# EAGLE library part DIP-GAS-MQ-9(6P-D19MM) (library DIP-GAS-MQ-9_6P-D19MM_)
314100008 Check availability <https://pricing.snapeda.com/parts/MQ-9/Samsung%20Electro-Mechanics/view-part?ref=eda>
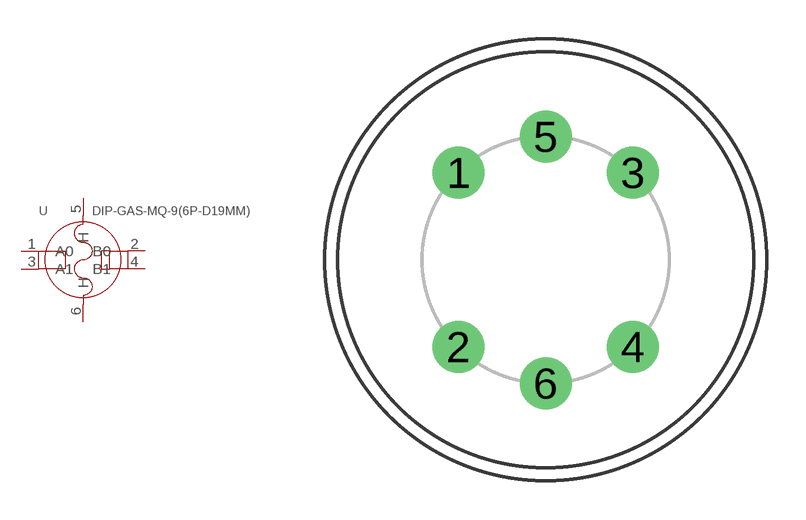
[diagram p0: symbol with the pads of SNR6-D19.0MM; footprint SNR6-D19.0MM]

Designator prefix U

## DIP-GAS-MQ-9(6P-D19MM) (Availability: Not in stock; Check_prices: https://www.snapeda.com/parts/MQ-9/Samsung+Electro-Mechanics/view-part/?ref=eda; Description: 4.7 µF ±20% 6.3V Ceramic Capacitor X7T 0603 (1608 Metric); MF: Samsung Electro-Mechanics; MP: MQ-9; Package: None; Price: None; Purchase-URL: https://www.snapeda.com/api/url_track_click_mouser/?unipart_id=106079&manufacturer=Samsung Electro-Mechanics&part_name=MQ-9&search_term=None; SnapEDA_Link: https://www.snapeda.com/parts/MQ-9/Samsung+Electro-Mechanics/view-part/?ref=snap)  [SNR6-D19.0MM]
1  A0
2  B0
3  A1
4  B1
5  H
6  H

## Footprint SNR6-D19.0MM (pad centres in mm)
drill 1.3 pad 2: 1 -3.355,3.355; 2 -3.355,-3.355; 3 3.355,3.355; 4 3.355,-3.355; 5 0,4.75; 6 0,-4.75